# EAGLE library part ARDUINO_FIO (library Boards)
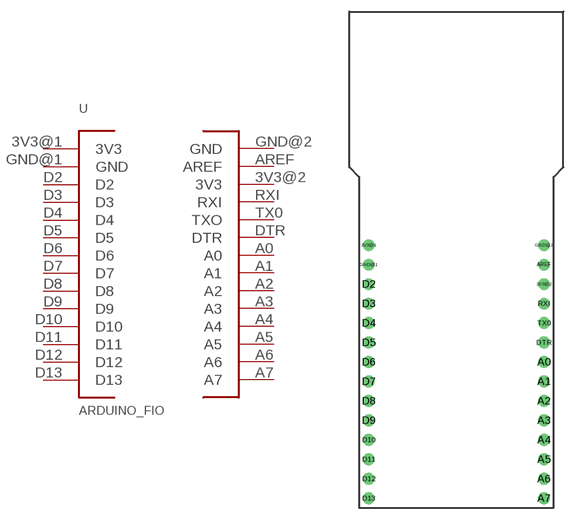
[diagram p11: symbol with the pads of ARDUINO_FIO; footprint ARDUINO_FIO]

Designator prefix -

## ARDUINO_FIO  [ARDUINO_FIO]
3V3@1  3V3  pwr
3V3@2  3V3  pwr
A0  A0
A1  A1
A2  A2
A3  A3
A4  A4
A5  A5
A6  A6
A7  A7
AREF  AREF  pwr
D2  D2
D3  D3
D4  D4
D5  D5
D6  D6
D7  D7
D8  D8
D9  D9
D10  D10
D11  D11
D12  D12
D13  D13
DTR  DTR
GND@1  GND  pwr
GND@2  GND  pwr
RXI  RXI
TX0  TXO

## Footprint ARDUINO_FIO (pad centres in mm)
drill 1.016: 3V3@1 -11.43,6.35; 3V3@2 11.43,1.27; A0 11.43,-8.89; A1 11.43,-11.43; A2 11.43,-13.97; A3 11.43,-16.51; A4 11.43,-19.05; A5 11.43,-21.59; A6 11.43,-24.13; A7 11.43,-26.67; AREF 11.43,3.81; D2 -11.43,1.27; D3 -11.43,-1.27; D4 -11.43,-3.81; D5 -11.43,-6.35; D6 -11.43,-8.89; D7 -11.43,-11.43; D8 -11.43,-13.97; D9 -11.43,-16.51; D10 -11.43,-19.05; D11 -11.43,-21.59; D12 -11.43,-24.13; D13 -11.43,-26.67; DTR 11.43,-6.35; GND@1 -11.43,3.81; GND@2 11.43,6.35; RXI 11.43,-1.27; TX0 11.43,-3.81